# EAGLE library part YK814C (library Seeed-OPL-2017-01-connector-edward)
320100005
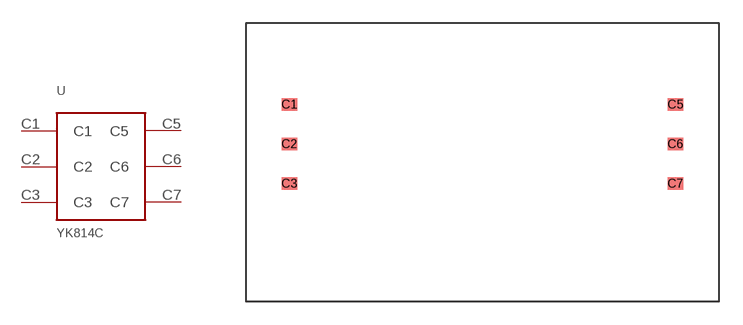
[diagram p5: symbol with the pads of YK814C; footprint YK814C]

Designator prefix -

## YK814C  [YK814C]
C1  C1
C2  C2
C3  C3
C5  C5
C6  C6
C7  C7

## Footprint YK814C (pad centres in mm)
smd 1 x 0.8: C1 0,5.08; C2 0,2.54; C3 0,0; C5 24.8,5.08; C6 24.8,2.54; C7 24.8,0